# Altium footprint library Molex Footprints.PcbLib: 498 footprints (part 24 of 32)
Each footprint in its own frame and in the unit in brackets; x right, y up, seen from the top. Pads: shape width x height; smd on the part's side, far side on the other; paste and mask are expansions set on the pad; w line width, h text height; cw(c..) or ccw(c..) is an arc to the next point about the centre after c.
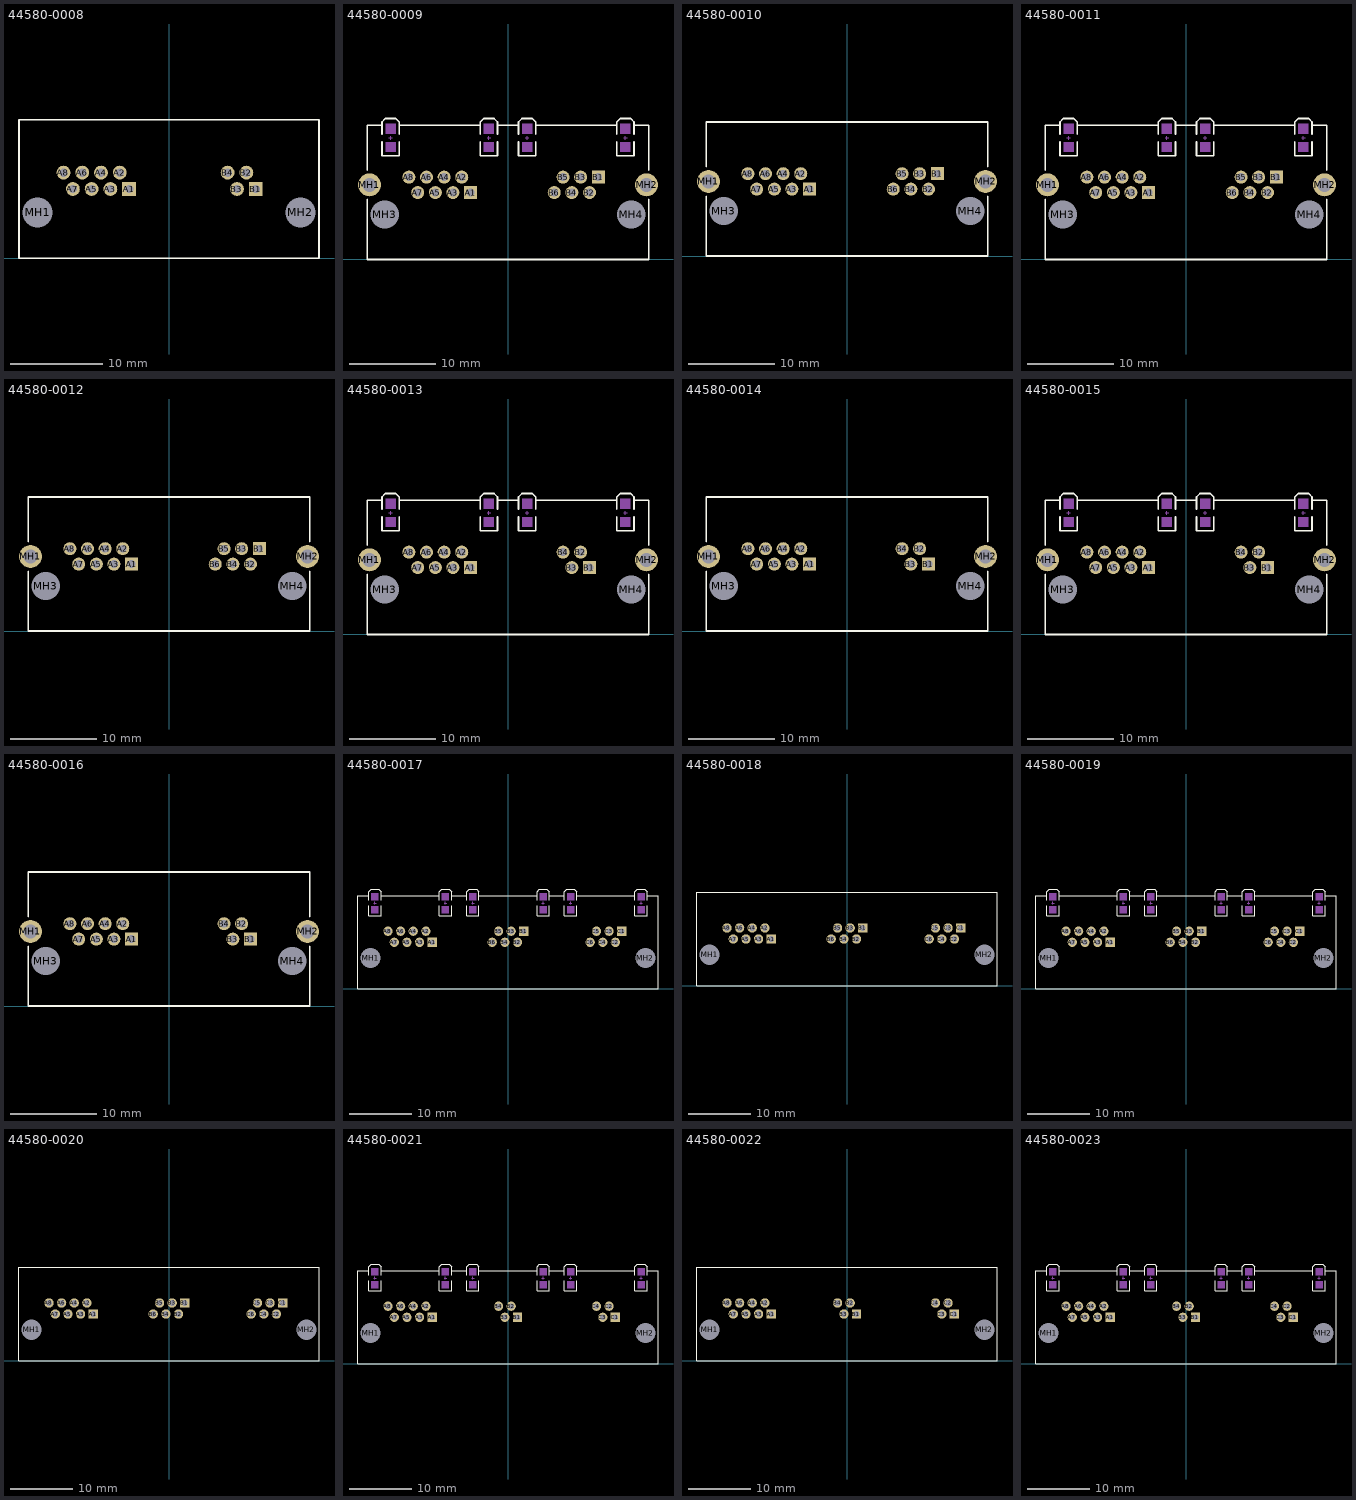
[diagram p23: the footprints below, top view; thin cyan lines are the x and y axes]

## 44580-0008 [mm] "Connector; PCB Jack, Thru-Hole; 2-Port; Unshielded without Lightpipes; Right Angle"
height 13.21
pads (14):
  rect 1.5x1.5 hole 0.9: A1(-4.318,7.49) B1(9.398,7.49)
  round 1.5 hole 0.9: A2(-5.334,9.268) A3(-6.35,7.49) A4(-7.366,9.268) A5(-8.382,7.49) A6(-9.398,9.268) A7(-10.414,7.49) A8(-11.43,9.268) B2(8.382,9.268) B3(7.366,7.49) B4(6.35,9.268)
  round 2.95 hole 3.25 unplated: MH1(-14.224,4.95) MH2(14.224,4.95)
Top Overlay:
  lines w0.2: -16.249,0 16.249,0 16.249,14.99 -16.249,14.99 -16.249,0

## 44580-0009 [mm] "Connector; PCB Jack, Thru-Hole; 2-Port; Shielded with Lightpipes; Right Angle"
height 13.46
pads (18):
  rect 1.5x1.5 hole 0.9: A1(-4.318,7.72) B1(10.414,9.498)
  round 1.5 hole 0.9: A2(-5.334,9.498) A3(-6.35,7.72) A4(-7.366,9.498) A5(-8.382,7.72) A6(-9.398,9.498) A7(-10.414,7.72) A8(-11.43,9.498) B2(9.398,7.72) B3(8.382,9.498) B4(7.366,7.72) B5(6.35,9.498) B6(5.334,7.72)
  round 2.65 hole 1.6: MH1(-15.977,8.609) MH2(15.977,8.609)
  round 2.95 hole 3.25 unplated: MH3(-14.224,5.18) MH4(14.224,5.18)
Top Overlay:
  lines w0.2: -16.249,6.906 -16.249,0 16.249,0 16.249,6.906 ; -16.249,10.312 -16.249,15.47 -14.538,15.47 ; -14.538,13.578 -14.538,11.978 -12.538,11.978 -12.538,13.578 ; -14.538,14.461 -14.538,15.861 -14.138,16.261 -12.938,16.261 -12.538,15.861 -12.538,14.461 ; -12.538,15.47 -3.21,15.47 ; -3.21,13.578 -3.21,11.978 -1.21,11.978 -1.21,13.578 ; -3.21,14.461 -3.21,15.861 -2.81,16.261 -1.61,16.261 -1.21,15.861 -1.21,14.461 ; -1.21,15.47 1.21,15.47 ; 1.21,13.578 1.21,11.978 3.21,11.978 3.21,13.578 ; 1.21,14.461 1.21,15.861 1.61,16.261 2.81,16.261 3.21,15.861 3.21,14.461 ; 3.21,15.47 12.538,15.47 ; 12.538,13.578 12.538,11.978 14.538,11.978 14.538,13.578 ; 12.538,14.461 12.538,15.861 12.938,16.261 14.138,16.261 14.538,15.861 14.538,14.461 ; 14.538,15.47 16.249,15.47 16.249,10.312
Mechanical 1:
  rectangle: -14.138,12.378 -12.938,13.578
  rectangle: -14.138,14.461 -12.938,15.661
  rectangle: -2.81,12.378 -1.61,13.578
  rectangle: -2.81,14.461 -1.61,15.661
  rectangle: 1.61,12.378 2.81,13.578
  rectangle: 1.61,14.461 2.81,15.661
  rectangle: 12.938,12.378 14.138,13.578
  rectangle: 12.938,14.461 14.138,15.661
  lines w0.1: -13.738,14.019 -13.538,14.019 ; -13.538,13.819 -13.538,14.019 ; -13.538,14.219 -13.538,14.019 ; -13.338,14.019 -13.538,14.019 ; -2.41,14.019 -2.21,14.019 ; -2.21,13.819 -2.21,14.019 ; -2.21,14.219 -2.21,14.019 ; -2.01,14.019 -2.21,14.019 ; 2.01,14.019 2.21,14.019 ; 2.21,13.819 2.21,14.019 ; 2.21,14.219 2.21,14.019 ; 2.41,14.019 2.21,14.019 ; 13.338,14.019 13.538,14.019 ; 13.538,13.819 13.538,14.019 ; 13.538,14.219 13.538,14.019 ; 13.738,14.019 13.538,14.019

## 44580-0010 [mm] "Connector; PCB Jack, Thru-Hole; 2-Port; Shielded without Lightpipes; Right Angle"
height 13.46
pads (18):
  rect 1.5x1.5 hole 0.9: A1(-4.318,7.72) B1(10.414,9.498)
  round 1.5 hole 0.9: A2(-5.334,9.498) A3(-6.35,7.72) A4(-7.366,9.498) A5(-8.382,7.72) A6(-9.398,9.498) A7(-10.414,7.72) A8(-11.43,9.498) B2(9.398,7.72) B3(8.382,9.498) B4(7.366,7.72) B5(6.35,9.498) B6(5.334,7.72)
  round 2.65 hole 1.6: MH1(-15.977,8.609) MH2(15.977,8.609)
  round 2.95 hole 3.25 unplated: MH3(-14.224,5.18) MH4(14.224,5.18)
Top Overlay:
  lines w0.2: -16.249,6.906 -16.249,0 16.249,0 16.249,6.906 ; -16.249,10.312 -16.249,15.47 16.249,15.47 16.249,10.312

## 44580-0011 [mm] "Connector; PCB Jack, Thru-Hole; 2-Port; Shielded with Lightpipes; Right Angle"
height 13.46
pads (18):
  rect 1.5x1.5 hole 0.9: A1(-4.318,7.72) B1(10.414,9.498)
  round 1.5 hole 0.9: A2(-5.334,9.498) A3(-6.35,7.72) A4(-7.366,9.498) A5(-8.382,7.72) A6(-9.398,9.498) A7(-10.414,7.72) A8(-11.43,9.498) B2(9.398,7.72) B3(8.382,9.498) B4(7.366,7.72) B5(6.35,9.498) B6(5.334,7.72)
  round 2.65 hole 1.6: MH1(-15.977,8.609) MH2(15.977,8.609)
  round 2.95 hole 3.25 unplated: MH3(-14.224,5.18) MH4(14.224,5.18)
Top Overlay:
  lines w0.2: -16.249,6.906 -16.249,0 16.249,0 16.249,6.906 ; -16.249,10.312 -16.249,15.47 -14.538,15.47 ; -14.538,13.578 -14.538,11.978 -12.538,11.978 -12.538,13.578 ; -14.538,14.461 -14.538,15.861 -14.138,16.261 -12.938,16.261 -12.538,15.861 -12.538,14.461 ; -12.538,15.47 -3.21,15.47 ; -3.21,13.578 -3.21,11.978 -1.21,11.978 -1.21,13.578 ; -3.21,14.461 -3.21,15.861 -2.81,16.261 -1.61,16.261 -1.21,15.861 -1.21,14.461 ; -1.21,15.47 1.21,15.47 ; 1.21,13.578 1.21,11.978 3.21,11.978 3.21,13.578 ; 1.21,14.461 1.21,15.861 1.61,16.261 2.81,16.261 3.21,15.861 3.21,14.461 ; 3.21,15.47 12.538,15.47 ; 12.538,13.578 12.538,11.978 14.538,11.978 14.538,13.578 ; 12.538,14.461 12.538,15.861 12.938,16.261 14.138,16.261 14.538,15.861 14.538,14.461 ; 14.538,15.47 16.249,15.47 16.249,10.312
Mechanical 1:
  rectangle: -14.138,12.378 -12.938,13.578
  rectangle: -14.138,14.461 -12.938,15.661
  rectangle: -2.81,12.378 -1.61,13.578
  rectangle: -2.81,14.461 -1.61,15.661
  rectangle: 1.61,12.378 2.81,13.578
  rectangle: 1.61,14.461 2.81,15.661
  rectangle: 12.938,12.378 14.138,13.578
  rectangle: 12.938,14.461 14.138,15.661
  lines w0.1: -13.738,14.019 -13.538,14.019 ; -13.538,13.819 -13.538,14.019 ; -13.538,14.219 -13.538,14.019 ; -13.338,14.019 -13.538,14.019 ; -2.41,14.019 -2.21,14.019 ; -2.21,13.819 -2.21,14.019 ; -2.21,14.219 -2.21,14.019 ; -2.01,14.019 -2.21,14.019 ; 2.01,14.019 2.21,14.019 ; 2.21,13.819 2.21,14.019 ; 2.21,14.219 2.21,14.019 ; 2.41,14.019 2.21,14.019 ; 13.338,14.019 13.538,14.019 ; 13.538,13.819 13.538,14.019 ; 13.538,14.219 13.538,14.019 ; 13.738,14.019 13.538,14.019

## 44580-0012 [mm] "Connector; PCB Jack, Thru-Hole; 2-Port; Shielded without Lightpipes; Right Angle"
height 13.46
pads (18):
  rect 1.5x1.5 hole 0.9: A1(-4.318,7.72) B1(10.414,9.498)
  round 1.5 hole 0.9: A2(-5.334,9.498) A3(-6.35,7.72) A4(-7.366,9.498) A5(-8.382,7.72) A6(-9.398,9.498) A7(-10.414,7.72) A8(-11.43,9.498) B2(9.398,7.72) B3(8.382,9.498) B4(7.366,7.72) B5(6.35,9.498) B6(5.334,7.72)
  round 2.65 hole 1.6: MH1(-15.977,8.609) MH2(15.977,8.609)
  round 2.95 hole 3.25 unplated: MH3(-14.224,5.18) MH4(14.224,5.18)
Top Overlay:
  lines w0.2: -16.249,6.906 -16.249,0 16.249,0 16.249,6.906 ; -16.249,10.312 -16.249,15.47 16.249,15.47 16.249,10.312

## 44580-0013 [mm] "Connector; PCB Jack, Thru-Hole; 2-Port; Shielded with Lightpipes; Right Angle"
height 13.46
pads (16):
  rect 1.5x1.5 hole 0.9: A1(-4.318,7.72) B1(9.398,7.72)
  round 1.5 hole 0.9: A2(-5.334,9.498) A3(-6.35,7.72) A4(-7.366,9.498) A5(-8.382,7.72) A6(-9.398,9.498) A7(-10.414,7.72) A8(-11.43,9.498) B2(8.382,9.498) B3(7.366,7.72) B4(6.35,9.498)
  round 2.65 hole 1.6: MH1(-15.977,8.609) MH2(15.977,8.609)
  round 2.95 hole 3.25 unplated: MH3(-14.224,5.18) MH4(14.224,5.18)
Top Overlay:
  lines w0.2: -16.249,6.906 -16.249,0 16.249,0 16.249,6.906 ; -16.249,10.312 -16.249,15.47 -14.538,15.47 ; -14.538,13.578 -14.538,11.978 -12.538,11.978 -12.538,13.578 ; -14.538,14.461 -14.538,15.861 -14.138,16.261 -12.938,16.261 -12.538,15.861 -12.538,14.461 ; -12.538,15.47 -3.21,15.47 ; -3.21,13.578 -3.21,11.978 -1.21,11.978 -1.21,13.578 ; -3.21,14.461 -3.21,15.861 -2.81,16.261 -1.61,16.261 -1.21,15.861 -1.21,14.461 ; -1.21,15.47 1.21,15.47 ; 1.21,13.578 1.21,11.978 3.21,11.978 3.21,13.578 ; 1.21,14.461 1.21,15.861 1.61,16.261 2.81,16.261 3.21,15.861 3.21,14.461 ; 3.21,15.47 12.538,15.47 ; 12.538,13.578 12.538,11.978 14.538,11.978 14.538,13.578 ; 12.538,14.461 12.538,15.861 12.938,16.261 14.138,16.261 14.538,15.861 14.538,14.461 ; 14.538,15.47 16.249,15.47 16.249,10.312
Mechanical 1:
  rectangle: 12.938,14.461 14.138,15.661
  rectangle: 12.938,12.378 14.138,13.578
  rectangle: 1.61,14.461 2.81,15.661
  rectangle: 1.61,12.378 2.81,13.578
  rectangle: -2.81,14.461 -1.61,15.661
  rectangle: -2.81,12.378 -1.61,13.578
  rectangle: -14.138,14.461 -12.938,15.661
  rectangle: -14.138,12.378 -12.938,13.578
  lines w0.1: -13.738,14.019 -13.538,14.019 ; -13.538,13.819 -13.538,14.019 ; -13.538,14.219 -13.538,14.019 ; -13.338,14.019 -13.538,14.019 ; -2.41,14.019 -2.21,14.019 ; -2.21,13.819 -2.21,14.019 ; -2.21,14.219 -2.21,14.019 ; -2.01,14.019 -2.21,14.019 ; 2.01,14.019 2.21,14.019 ; 2.21,13.819 2.21,14.019 ; 2.21,14.219 2.21,14.019 ; 2.41,14.019 2.21,14.019 ; 13.338,14.019 13.538,14.019 ; 13.538,13.819 13.538,14.019 ; 13.538,14.219 13.538,14.019 ; 13.738,14.019 13.538,14.019

## 44580-0014 [mm] "Connector; PCB Jack, Thru-Hole; 2-Port; Shielded without Lightpipes; Right Angle"
height 13.46
pads (16):
  rect 1.5x1.5 hole 0.9: A1(-4.318,7.72) B1(9.398,7.72)
  round 1.5 hole 0.9: A2(-5.334,9.498) A3(-6.35,7.72) A4(-7.366,9.498) A5(-8.382,7.72) A6(-9.398,9.498) A7(-10.414,7.72) A8(-11.43,9.498) B2(8.382,9.498) B3(7.366,7.72) B4(6.35,9.498)
  round 2.65 hole 1.6: MH1(-15.977,8.609) MH2(15.977,8.609)
  round 2.95 hole 3.25 unplated: MH3(-14.224,5.18) MH4(14.224,5.18)
Top Overlay:
  lines w0.2: -16.249,6.906 -16.249,0 16.249,0 16.249,6.906 ; -16.249,10.312 -16.249,15.47 16.249,15.47 16.249,10.312

## 44580-0015 [mm] "Connector; PCB Jack, Thru-Hole; 2-Port; Shielded with Lightpipes; Right Angle"
height 13.46
pads (16):
  rect 1.5x1.5 hole 0.9: A1(-4.318,7.72) B1(9.398,7.72)
  round 1.5 hole 0.9: A2(-5.334,9.498) A3(-6.35,7.72) A4(-7.366,9.498) A5(-8.382,7.72) A6(-9.398,9.498) A7(-10.414,7.72) A8(-11.43,9.498) B2(8.382,9.498) B3(7.366,7.72) B4(6.35,9.498)
  round 2.65 hole 1.6: MH1(-15.977,8.609) MH2(15.977,8.609)
  round 2.95 hole 3.25 unplated: MH3(-14.224,5.18) MH4(14.224,5.18)
Top Overlay:
  lines w0.2: -16.249,6.906 -16.249,0 16.249,0 16.249,6.906 ; -16.249,10.312 -16.249,15.47 -14.538,15.47 ; -14.538,13.578 -14.538,11.978 -12.538,11.978 -12.538,13.578 ; -14.538,14.461 -14.538,15.861 -14.138,16.261 -12.938,16.261 -12.538,15.861 -12.538,14.461 ; -12.538,15.47 -3.21,15.47 ; -3.21,13.578 -3.21,11.978 -1.21,11.978 -1.21,13.578 ; -3.21,14.461 -3.21,15.861 -2.81,16.261 -1.61,16.261 -1.21,15.861 -1.21,14.461 ; -1.21,15.47 1.21,15.47 ; 1.21,13.578 1.21,11.978 3.21,11.978 3.21,13.578 ; 1.21,14.461 1.21,15.861 1.61,16.261 2.81,16.261 3.21,15.861 3.21,14.461 ; 3.21,15.47 12.538,15.47 ; 12.538,13.578 12.538,11.978 14.538,11.978 14.538,13.578 ; 12.538,14.461 12.538,15.861 12.938,16.261 14.138,16.261 14.538,15.861 14.538,14.461 ; 14.538,15.47 16.249,15.47 16.249,10.312
Mechanical 1:
  rectangle: 12.938,14.461 14.138,15.661
  rectangle: 12.938,12.378 14.138,13.578
  rectangle: 1.61,14.461 2.81,15.661
  rectangle: 1.61,12.378 2.81,13.578
  rectangle: -2.81,14.461 -1.61,15.661
  rectangle: -2.81,12.378 -1.61,13.578
  rectangle: -14.138,14.461 -12.938,15.661
  rectangle: -14.138,12.378 -12.938,13.578
  lines w0.1: -13.738,14.019 -13.538,14.019 ; -13.538,13.819 -13.538,14.019 ; -13.538,14.219 -13.538,14.019 ; -13.338,14.019 -13.538,14.019 ; -2.41,14.019 -2.21,14.019 ; -2.21,13.819 -2.21,14.019 ; -2.21,14.219 -2.21,14.019 ; -2.01,14.019 -2.21,14.019 ; 2.01,14.019 2.21,14.019 ; 2.21,13.819 2.21,14.019 ; 2.21,14.219 2.21,14.019 ; 2.41,14.019 2.21,14.019 ; 13.338,14.019 13.538,14.019 ; 13.538,13.819 13.538,14.019 ; 13.538,14.219 13.538,14.019 ; 13.738,14.019 13.538,14.019

## 44580-0016 [mm] "Connector; PCB Jack, Thru-Hole; 2-Port; Shielded without Lightpipes; Right Angle"
height 13.46
pads (16):
  rect 1.5x1.5 hole 0.9: A1(-4.318,7.72) B1(9.398,7.72)
  round 1.5 hole 0.9: A2(-5.334,9.498) A3(-6.35,7.72) A4(-7.366,9.498) A5(-8.382,7.72) A6(-9.398,9.498) A7(-10.414,7.72) A8(-11.43,9.498) B2(8.382,9.498) B3(7.366,7.72) B4(6.35,9.498)
  round 2.65 hole 1.6: MH1(-15.977,8.609) MH2(15.977,8.609)
  round 2.95 hole 3.25 unplated: MH3(-14.224,5.18) MH4(14.224,5.18)
Top Overlay:
  lines w0.2: -16.249,6.906 -16.249,0 16.249,0 16.249,6.906 ; -16.249,10.312 -16.249,15.47 16.249,15.47 16.249,10.312

## 44580-0017 [mm] "Connector; PCB Jack, Thru-Hole; 3-Port; Unshielded with Lightpipes; Right Angle"
height 13.21
pads (22):
  rect 1.5x1.5 hole 0.9: A1(-12.192,7.49) B1(2.54,9.268) C1(18.288,9.268)
  round 1.5 hole 0.9: A2(-13.208,9.268) A3(-14.224,7.49) A4(-15.24,9.268) A5(-16.256,7.49) A6(-17.272,9.268) A7(-18.288,7.49) A8(-19.304,9.268) B2(1.524,7.49) B3(0.508,9.268) B4(-0.508,7.49) B5(-1.524,9.268) B6(-2.54,7.49) C2(17.272,7.49) C3(16.256,9.268) C4(15.24,7.49) C5(14.224,9.268) C6(13.208,7.49)
  round 2.95 hole 3.25 unplated: MH1(-22.098,4.95) MH2(22.098,4.95)
Top Overlay:
  lines w0.2: -22.412,13.348 -22.412,11.748 -20.412,11.748 -20.412,13.348 ; -22.412,14.231 -22.412,15.631 -22.012,16.031 -20.812,16.031 -20.412,15.631 -20.412,14.231 ; -22.412,14.99 -24.123,14.99 -24.123,0 24.123,0 24.123,14.99 22.412,14.99 ; -20.412,14.99 -11.084,14.99 ; -11.084,13.348 -11.084,11.748 -9.084,11.748 -9.084,13.348 ; -11.084,14.231 -11.084,15.631 -10.684,16.031 -9.484,16.031 -9.084,15.631 -9.084,14.231 ; -9.084,14.99 -6.664,14.99 ; -6.664,13.348 -6.664,11.748 -4.664,11.748 -4.664,13.348 ; -6.664,14.231 -6.664,15.631 -6.264,16.031 -5.064,16.031 -4.664,15.631 -4.664,14.231 ; -4.664,14.99 4.664,14.99 ; 4.664,13.348 4.664,11.748 6.664,11.748 6.664,13.348 ; 4.664,14.231 4.664,15.631 5.064,16.031 6.264,16.031 6.664,15.631 6.664,14.231 ; 6.664,14.99 9.084,14.99 ; 9.084,13.348 9.084,11.748 11.084,11.748 11.084,13.348 ; 9.084,14.231 9.084,15.631 9.484,16.031 10.684,16.031 11.084,15.631 11.084,14.231 ; 11.084,14.99 20.412,14.99 ; 20.412,13.348 20.412,11.748 22.412,11.748 22.412,13.348 ; 20.412,14.231 20.412,15.631 20.812,16.031 22.012,16.031 22.412,15.631 22.412,14.231
Mechanical 1:
  rectangle: -22.012,12.148 -20.812,13.348
  rectangle: -22.012,14.231 -20.812,15.431
  rectangle: -10.684,12.148 -9.484,13.348
  rectangle: -10.684,14.231 -9.484,15.431
  rectangle: -6.264,12.148 -5.064,13.348
  rectangle: -6.264,14.231 -5.064,15.431
  rectangle: 5.064,12.148 6.264,13.348
  rectangle: 5.064,14.231 6.264,15.431
  rectangle: 9.484,12.148 10.684,13.348
  rectangle: 9.484,14.231 10.684,15.431
  rectangle: 20.812,12.148 22.012,13.348
  rectangle: 20.812,14.231 22.012,15.431
  lines w0.1: -21.612,13.789 -21.412,13.789 ; -21.412,13.589 -21.412,13.789 ; -21.412,13.989 -21.412,13.789 ; -21.212,13.789 -21.412,13.789 ; -10.284,13.789 -10.084,13.789 ; -10.084,13.589 -10.084,13.789 ; -10.084,13.989 -10.084,13.789 ; -9.884,13.789 -10.084,13.789 ; -5.864,13.789 -5.664,13.789 ; -5.664,13.589 -5.664,13.789 ; -5.664,13.989 -5.664,13.789 ; -5.464,13.789 -5.664,13.789 ; 5.464,13.789 5.664,13.789 ; 5.664,13.589 5.664,13.789 ; 5.664,13.989 5.664,13.789 ; 5.864,13.789 5.664,13.789 ; 9.884,13.789 10.084,13.789 ; 10.084,13.589 10.084,13.789 ; 10.084,13.989 10.084,13.789 ; 10.284,13.789 10.084,13.789 ; 21.212,13.789 21.412,13.789 ; 21.412,13.589 21.412,13.789 ; 21.412,13.989 21.412,13.789 ; 21.612,13.789 21.412,13.789

## 44580-0018 [mm] "Connector; PCB Jack, Thru-Hole; 3-Port; Unshielded without Lightpipes; Right Angle"
height 13.21
pads (22):
  rect 1.5x1.5 hole 0.9: A1(-12.192,7.49) B1(2.54,9.268) C1(18.288,9.268)
  round 1.5 hole 0.9: A2(-13.208,9.268) A3(-14.224,7.49) A4(-15.24,9.268) A5(-16.256,7.49) A6(-17.272,9.268) A7(-18.288,7.49) A8(-19.304,9.268) B2(1.524,7.49) B3(0.508,9.268) B4(-0.508,7.49) B5(-1.524,9.268) B6(-2.54,7.49) C2(17.272,7.49) C3(16.256,9.268) C4(15.24,7.49) C5(14.224,9.268) C6(13.208,7.49)
  round 2.95 hole 3.25 unplated: MH1(-22.098,4.95) MH2(22.098,4.95)
Top Overlay:
  lines w0.2: -24.123,0 -24.123,14.99 24.123,14.99 24.123,0 -24.123,0

## 44580-0019 [mm] "Connector; PCB Jack, Thru-Hole; 3-Port; Unshielded with Lightpipes; Right Angle"
height 13.21
pads (22):
  rect 1.5x1.5 hole 0.9: A1(-12.192,7.49) B1(2.54,9.268) C1(18.288,9.268)
  round 1.5 hole 0.9: A2(-13.208,9.268) A3(-14.224,7.49) A4(-15.24,9.268) A5(-16.256,7.49) A6(-17.272,9.268) A7(-18.288,7.49) A8(-19.304,9.268) B2(1.524,7.49) B3(0.508,9.268) B4(-0.508,7.49) B5(-1.524,9.268) B6(-2.54,7.49) C2(17.272,7.49) C3(16.256,9.268) C4(15.24,7.49) C5(14.224,9.268) C6(13.208,7.49)
  round 2.95 hole 3.25 unplated: MH1(-22.098,4.95) MH2(22.098,4.95)
Top Overlay:
  lines w0.2: -22.412,13.348 -22.412,11.748 -20.412,11.748 -20.412,13.348 ; -22.412,14.231 -22.412,15.631 -22.012,16.031 -20.812,16.031 -20.412,15.631 -20.412,14.231 ; -22.412,14.99 -24.123,14.99 -24.123,0 24.123,0 24.123,14.99 22.412,14.99 ; -20.412,14.99 -11.084,14.99 ; -11.084,13.348 -11.084,11.748 -9.084,11.748 -9.084,13.348 ; -11.084,14.231 -11.084,15.631 -10.684,16.031 -9.484,16.031 -9.084,15.631 -9.084,14.231 ; -9.084,14.99 -6.664,14.99 ; -6.664,13.348 -6.664,11.748 -4.664,11.748 -4.664,13.348 ; -6.664,14.231 -6.664,15.631 -6.264,16.031 -5.064,16.031 -4.664,15.631 -4.664,14.231 ; -4.664,14.99 4.664,14.99 ; 4.664,13.348 4.664,11.748 6.664,11.748 6.664,13.348 ; 4.664,14.231 4.664,15.631 5.064,16.031 6.264,16.031 6.664,15.631 6.664,14.231 ; 6.664,14.99 9.084,14.99 ; 9.084,13.348 9.084,11.748 11.084,11.748 11.084,13.348 ; 9.084,14.231 9.084,15.631 9.484,16.031 10.684,16.031 11.084,15.631 11.084,14.231 ; 11.084,14.99 20.412,14.99 ; 20.412,13.348 20.412,11.748 22.412,11.748 22.412,13.348 ; 20.412,14.231 20.412,15.631 20.812,16.031 22.012,16.031 22.412,15.631 22.412,14.231
Mechanical 1:
  rectangle: -22.012,12.148 -20.812,13.348
  rectangle: -22.012,14.231 -20.812,15.431
  rectangle: -10.684,12.148 -9.484,13.348
  rectangle: -10.684,14.231 -9.484,15.431
  rectangle: -6.264,12.148 -5.064,13.348
  rectangle: -6.264,14.231 -5.064,15.431
  rectangle: 5.064,12.148 6.264,13.348
  rectangle: 5.064,14.231 6.264,15.431
  rectangle: 9.484,12.148 10.684,13.348
  rectangle: 9.484,14.231 10.684,15.431
  rectangle: 20.812,12.148 22.012,13.348
  rectangle: 20.812,14.231 22.012,15.431
  lines w0.1: -21.612,13.789 -21.412,13.789 ; -21.412,13.589 -21.412,13.789 ; -21.412,13.989 -21.412,13.789 ; -21.212,13.789 -21.412,13.789 ; -10.284,13.789 -10.084,13.789 ; -10.084,13.589 -10.084,13.789 ; -10.084,13.989 -10.084,13.789 ; -9.884,13.789 -10.084,13.789 ; -5.864,13.789 -5.664,13.789 ; -5.664,13.589 -5.664,13.789 ; -5.664,13.989 -5.664,13.789 ; -5.464,13.789 -5.664,13.789 ; 5.464,13.789 5.664,13.789 ; 5.664,13.589 5.664,13.789 ; 5.664,13.989 5.664,13.789 ; 5.864,13.789 5.664,13.789 ; 9.884,13.789 10.084,13.789 ; 10.084,13.589 10.084,13.789 ; 10.084,13.989 10.084,13.789 ; 10.284,13.789 10.084,13.789 ; 21.212,13.789 21.412,13.789 ; 21.412,13.589 21.412,13.789 ; 21.412,13.989 21.412,13.789 ; 21.612,13.789 21.412,13.789

## 44580-0020 [mm] "Connector; PCB Jack, Thru-Hole; 3-Port; Unshielded without Lightpipes; Right Angle"
height 13.21
pads (22):
  rect 1.5x1.5 hole 0.9: A1(-12.192,7.49) B1(2.54,9.268) C1(18.288,9.268)
  round 1.5 hole 0.9: A2(-13.208,9.268) A3(-14.224,7.49) A4(-15.24,9.268) A5(-16.256,7.49) A6(-17.272,9.268) A7(-18.288,7.49) A8(-19.304,9.268) B2(1.524,7.49) B3(0.508,9.268) B4(-0.508,7.49) B5(-1.524,9.268) B6(-2.54,7.49) C2(17.272,7.49) C3(16.256,9.268) C4(15.24,7.49) C5(14.224,9.268) C6(13.208,7.49)
  round 2.95 hole 3.25 unplated: MH1(-22.098,4.95) MH2(22.098,4.95)
Top Overlay:
  lines w0.2: -24.123,0 -24.123,14.99 24.123,14.99 24.123,0 -24.123,0

## 44580-0021 [mm] "Connector; PCB Jack, Thru-Hole; 3-Port; Unshielded with Lightpipes; Right Angle"
height 13.21
pads (18):
  rect 1.5x1.5 hole 0.9: A1(-12.192,7.49) B1(1.524,7.49) C1(17.272,7.49)
  round 1.5 hole 0.9: A2(-13.208,9.268) A3(-14.224,7.49) A4(-15.24,9.268) A5(-16.256,7.49) A6(-17.272,9.268) A7(-18.288,7.49) A8(-19.304,9.268) B2(0.508,9.268) B3(-0.508,7.49) B4(-1.524,9.268) C2(16.256,9.268) C3(15.24,7.49) C4(14.224,9.268)
  round 2.95 hole 3.25 unplated: MH1(-22.098,4.95) MH2(22.098,4.95)
Top Overlay:
  lines w0.2: -22.412,13.348 -22.412,11.748 -20.412,11.748 -20.412,13.348 ; -22.412,14.231 -22.412,15.631 -22.012,16.031 -20.812,16.031 -20.412,15.631 -20.412,14.231 ; -22.412,14.99 -24.123,14.99 -24.123,0 24.123,0 24.123,14.99 22.412,14.99 ; -20.412,14.99 -11.084,14.99 ; -11.084,13.348 -11.084,11.748 -9.084,11.748 -9.084,13.348 ; -11.084,14.231 -11.084,15.631 -10.684,16.031 -9.484,16.031 -9.084,15.631 -9.084,14.231 ; -9.084,14.99 -6.664,14.99 ; -6.664,13.348 -6.664,11.748 -4.664,11.748 -4.664,13.348 ; -6.664,14.231 -6.664,15.631 -6.264,16.031 -5.064,16.031 -4.664,15.631 -4.664,14.231 ; -4.664,14.99 4.664,14.99 ; 4.664,13.348 4.664,11.748 6.664,11.748 6.664,13.348 ; 4.664,14.231 4.664,15.631 5.064,16.031 6.264,16.031 6.664,15.631 6.664,14.231 ; 6.664,14.99 9.084,14.99 ; 9.084,13.348 9.084,11.748 11.084,11.748 11.084,13.348 ; 9.084,14.231 9.084,15.631 9.484,16.031 10.684,16.031 11.084,15.631 11.084,14.231 ; 11.084,14.99 20.412,14.99 ; 20.412,13.348 20.412,11.748 22.412,11.748 22.412,13.348 ; 20.412,14.231 20.412,15.631 20.812,16.031 22.012,16.031 22.412,15.631 22.412,14.231
Mechanical 1:
  rectangle: 20.812,14.231 22.012,15.431
  rectangle: 20.812,12.148 22.012,13.348
  rectangle: 9.484,14.231 10.684,15.431
  rectangle: 9.484,12.148 10.684,13.348
  rectangle: 5.064,14.231 6.264,15.431
  rectangle: 5.064,12.148 6.264,13.348
  rectangle: -6.264,14.231 -5.064,15.431
  rectangle: -6.264,12.148 -5.064,13.348
  rectangle: -10.684,14.231 -9.484,15.431
  rectangle: -10.684,12.148 -9.484,13.348
  rectangle: -22.012,14.231 -20.812,15.431
  rectangle: -22.012,12.148 -20.812,13.348
  lines w0.1: -21.612,13.789 -21.412,13.789 ; -21.412,13.589 -21.412,13.789 ; -21.412,13.989 -21.412,13.789 ; -21.212,13.789 -21.412,13.789 ; -10.284,13.789 -10.084,13.789 ; -10.084,13.589 -10.084,13.789 ; -10.084,13.989 -10.084,13.789 ; -9.884,13.789 -10.084,13.789 ; -5.864,13.789 -5.664,13.789 ; -5.664,13.589 -5.664,13.789 ; -5.664,13.989 -5.664,13.789 ; -5.464,13.789 -5.664,13.789 ; 5.464,13.789 5.664,13.789 ; 5.664,13.589 5.664,13.789 ; 5.664,13.989 5.664,13.789 ; 5.864,13.789 5.664,13.789 ; 9.884,13.789 10.084,13.789 ; 10.084,13.589 10.084,13.789 ; 10.084,13.989 10.084,13.789 ; 10.284,13.789 10.084,13.789 ; 21.212,13.789 21.412,13.789 ; 21.412,13.589 21.412,13.789 ; 21.412,13.989 21.412,13.789 ; 21.612,13.789 21.412,13.789

## 44580-0022 [mm] "Connector; PCB Jack, Thru-Hole; 3-Port; Unshielded without Lightpipes; Right Angle"
height 13.21
pads (18):
  rect 1.5x1.5 hole 0.9: A1(-12.192,7.49) B1(1.524,7.49) C1(17.272,7.49)
  round 1.5 hole 0.9: A2(-13.208,9.268) A3(-14.224,7.49) A4(-15.24,9.268) A5(-16.256,7.49) A6(-17.272,9.268) A7(-18.288,7.49) A8(-19.304,9.268) B2(0.508,9.268) B3(-0.508,7.49) B4(-1.524,9.268) C2(16.256,9.268) C3(15.24,7.49) C4(14.224,9.268)
  round 2.95 hole 3.25 unplated: MH1(-22.098,4.95) MH2(22.098,4.95)
Top Overlay:
  lines w0.2: -24.123,0 24.123,0 24.123,14.99 -24.123,14.99 -24.123,0

## 44580-0023 [mm] "Connector; PCB Jack, Thru-Hole; 3-Port; Unshielded with Lightpipes; Right Angle"
height 13.21
pads (18):
  rect 1.5x1.5 hole 0.9: A1(-12.192,7.49) B1(1.524,7.49) C1(17.272,7.49)
  round 1.5 hole 0.9: A2(-13.208,9.268) A3(-14.224,7.49) A4(-15.24,9.268) A5(-16.256,7.49) A6(-17.272,9.268) A7(-18.288,7.49) A8(-19.304,9.268) B2(0.508,9.268) B3(-0.508,7.49) B4(-1.524,9.268) C2(16.256,9.268) C3(15.24,7.49) C4(14.224,9.268)
  round 2.95 hole 3.25 unplated: MH1(-22.098,4.95) MH2(22.098,4.95)
Top Overlay:
  lines w0.2: -22.412,13.348 -22.412,11.748 -20.412,11.748 -20.412,13.348 ; -22.412,14.231 -22.412,15.631 -22.012,16.031 -20.812,16.031 -20.412,15.631 -20.412,14.231 ; -22.412,14.99 -24.123,14.99 -24.123,0 24.123,0 24.123,14.99 22.412,14.99 ; -20.412,14.99 -11.084,14.99 ; -11.084,13.348 -11.084,11.748 -9.084,11.748 -9.084,13.348 ; -11.084,14.231 -11.084,15.631 -10.684,16.031 -9.484,16.031 -9.084,15.631 -9.084,14.231 ; -9.084,14.99 -6.664,14.99 ; -6.664,13.348 -6.664,11.748 -4.664,11.748 -4.664,13.348 ; -6.664,14.231 -6.664,15.631 -6.264,16.031 -5.064,16.031 -4.664,15.631 -4.664,14.231 ; -4.664,14.99 4.664,14.99 ; 4.664,13.348 4.664,11.748 6.664,11.748 6.664,13.348 ; 4.664,14.231 4.664,15.631 5.064,16.031 6.264,16.031 6.664,15.631 6.664,14.231 ; 6.664,14.99 9.084,14.99 ; 9.084,13.348 9.084,11.748 11.084,11.748 11.084,13.348 ; 9.084,14.231 9.084,15.631 9.484,16.031 10.684,16.031 11.084,15.631 11.084,14.231 ; 11.084,14.99 20.412,14.99 ; 20.412,13.348 20.412,11.748 22.412,11.748 22.412,13.348 ; 20.412,14.231 20.412,15.631 20.812,16.031 22.012,16.031 22.412,15.631 22.412,14.231
Mechanical 1:
  rectangle: 20.812,14.231 22.012,15.431
  rectangle: 20.812,12.148 22.012,13.348
  rectangle: 9.484,14.231 10.684,15.431
  rectangle: 9.484,12.148 10.684,13.348
  rectangle: 5.064,14.231 6.264,15.431
  rectangle: 5.064,12.148 6.264,13.348
  rectangle: -6.264,14.231 -5.064,15.431
  rectangle: -6.264,12.148 -5.064,13.348
  rectangle: -10.684,14.231 -9.484,15.431
  rectangle: -10.684,12.148 -9.484,13.348
  rectangle: -22.012,14.231 -20.812,15.431
  rectangle: -22.012,12.148 -20.812,13.348
  lines w0.1: -21.612,13.789 -21.412,13.789 ; -21.412,13.589 -21.412,13.789 ; -21.412,13.989 -21.412,13.789 ; -21.212,13.789 -21.412,13.789 ; -10.284,13.789 -10.084,13.789 ; -10.084,13.589 -10.084,13.789 ; -10.084,13.989 -10.084,13.789 ; -9.884,13.789 -10.084,13.789 ; -5.864,13.789 -5.664,13.789 ; -5.664,13.589 -5.664,13.789 ; -5.664,13.989 -5.664,13.789 ; -5.464,13.789 -5.664,13.789 ; 5.464,13.789 5.664,13.789 ; 5.664,13.589 5.664,13.789 ; 5.664,13.989 5.664,13.789 ; 5.864,13.789 5.664,13.789 ; 9.884,13.789 10.084,13.789 ; 10.084,13.589 10.084,13.789 ; 10.084,13.989 10.084,13.789 ; 10.284,13.789 10.084,13.789 ; 21.212,13.789 21.412,13.789 ; 21.412,13.589 21.412,13.789 ; 21.412,13.989 21.412,13.789 ; 21.612,13.789 21.412,13.789